# Altium footprint library aroshaD.PcbLib: 57 footprints (part 2 of 4)
Each footprint in its own frame and in the unit in brackets; x right, y up, seen from the top. Pads: shape width x height; smd on the part's side, far side on the other; paste and mask are expansions set on the pad; w line width, h text height; cw(c..) or ccw(c..) is an arc to the next point about the centre after c.
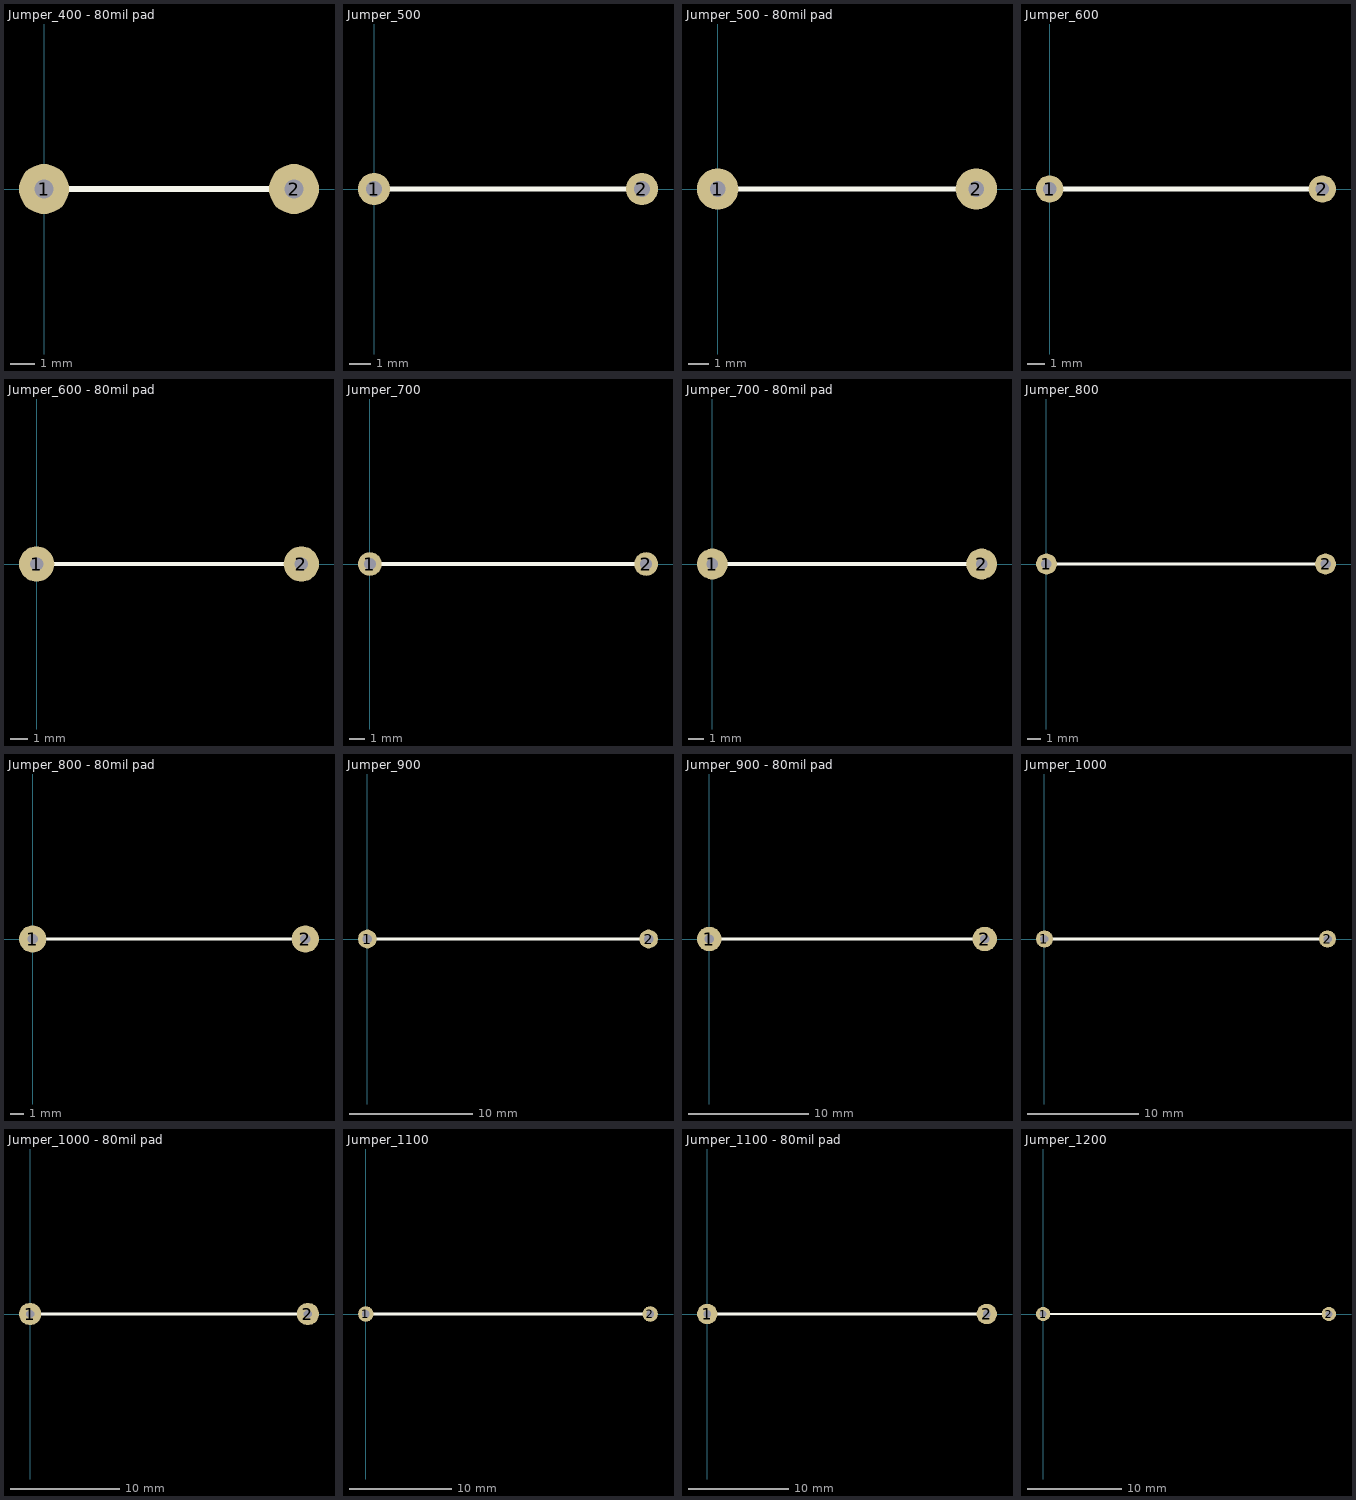
[diagram p1: the footprints below, top view; thin cyan lines are the x and y axes]

## Jumper_400 - 80mil pad [mil]
pads (2):
  round 80 hole 30: 1(0,0) 2(400,0)
Top Overlay:
  lines w10: 0,0 400,0

## Jumper_500 [mil]
pads (2):
  round 60 hole 30: 1(0,0) 2(500,0)
Top Overlay:
  lines w10: 0,0 500,0

## Jumper_500 - 80mil pad [mil]
pads (2):
  round 80 hole 30: 1(0,0) 2(500,0)
Top Overlay:
  lines w10: 0,0 500,0

## Jumper_600 [mil]
pads (2):
  round 60 hole 30: 1(0,0) 2(600,0)
Top Overlay:
  lines w10: 0,0 600,0

## Jumper_600 - 80mil pad [mil]
pads (2):
  round 80 hole 30: 1(0,0) 2(600,0)
Top Overlay:
  lines w10: 0,0 600,0

## Jumper_700 [mil]
pads (2):
  round 60 hole 30: 1(0,0) 2(700,0)
Top Overlay:
  lines w10: 0,0 700,0

## Jumper_700 - 80mil pad [mil]
pads (2):
  round 80 hole 30: 1(0,0) 2(700,0)
Top Overlay:
  lines w10: 0,0 700,0

## Jumper_800 [mil]
pads (2):
  round 60 hole 30: 1(0,0) 2(800,0)
Top Overlay:
  lines w10: 0,0 800,0

## Jumper_800 - 80mil pad [mil]
pads (2):
  round 80 hole 30: 1(0,0) 2(800,0)
Top Overlay:
  lines w10: 0,0 800,0

## Jumper_900 [mil]
pads (2):
  round 60 hole 30: 1(0,0) 2(900,0)
Top Overlay:
  lines w10: 0,0 900,0

## Jumper_900 - 80mil pad [mil]
pads (2):
  round 80 hole 30: 1(0,0) 2(900,0)
Top Overlay:
  lines w10: 0,0 900,0

## Jumper_1000 [mil]
pads (2):
  round 60 hole 30: 1(0,0) 2(1000,0)
Top Overlay:
  lines w10: 0,0 1000,0

## Jumper_1000 - 80mil pad [mil]
pads (2):
  round 80 hole 30: 1(0,0) 2(1000,0)
Top Overlay:
  lines w10: 0,0 1000,0

## Jumper_1100 [mil]
pads (2):
  round 60 hole 30: 1(0,0) 2(1100,0)
Top Overlay:
  lines w10: 0,0 1100,0

## Jumper_1100 - 80mil pad [mil]
pads (2):
  round 80 hole 30: 1(0,0) 2(1100,0)
Top Overlay:
  lines w10: 0,0 1100,0

## Jumper_1200 [mil]
pads (2):
  round 60 hole 30: 1(0,0) 2(1200,0)
Top Overlay:
  lines w10: 0,0 1200,0